# EAGLE library part L717SDE09P1ACH (library L717SDE09P1ACH)
Dsub, Stamped Signal 3A, Right Angle PCB Through Hole, FP=10.40mm (0.409in), Row Pitch 2.54mm, 9 Pin, Flash Gold, Bright Tin Shell+Grounding Dimples, 3.05mm (0.120in) Clear Hole, Ground Tab with Boardlock Source: Datasheet <https://cdn.amphenol-cs.com/media/wysiwyg/files/drawing/l717sdxxxp1ach.pdf>
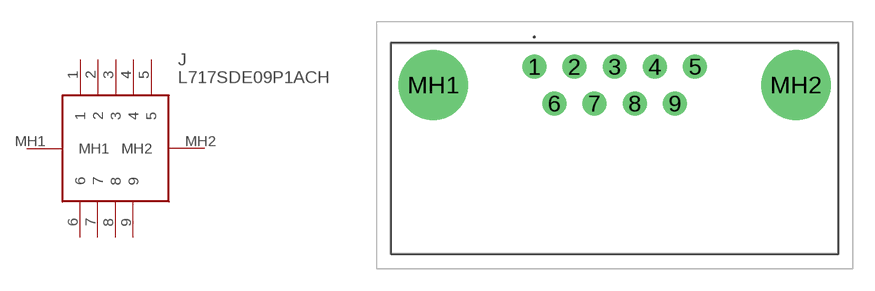
[diagram p0: symbol with the pads of L717SDE09P1ACH; footprint L717SDE09P1ACH]

Designator prefix J

## L717SDE09P1ACH (Description: Dsub, Stamped Signal 3A, Right Angle PCB Through Hole, FP=10.40mm (0.409in), Row Pitch 2.54mm, 9 Pin, Flash Gold, Bright Tin Shell+Grounding Dimples, 3.05mm (0.120in) Clear Hole, Ground Tab with Boardlock; Height: 12.93mm; Manufacturer_Name: Amphenol Communications Solutions; Manufacturer_Part_Number: L717SDE09P1ACH; Mouser_Part_Number: 523-L717SDE09P1ACH; Mouser_Price-Stock: https://www.mouser.co.uk/ProductDetail/Amphenol-Commercial-Products/L717SDE09P1ACH?qs=ToP8pWlZ0bM4QYgeUn06cg%3D%3D)  [L717SDE09P1ACH]
1  1
2  2
3  3
4  4
5  5
6  6
7  7
8  8
9  9
MH1  MH1
MH2  MH2

## Footprint L717SDE09P1ACH (pad centres in mm)
L717SDE09P1ACH-4
drill 1.1 pad 1.65: 1 0,0; 2 2.77,0; 3 5.54,0; 4 8.31,0; 5 11.08,0; 6 1.385,-2.54; 7 4.155,-2.54; 8 6.925,-2.54; 9 9.695,-2.54
drill 3.2 pad 4.8: MH1 -6.955,-1.27; MH2 18.035,-1.27